# Altium footprint library num_one.PcbLib: 28 footprints (part 2 of 2)
Each footprint in its own frame and in the unit in brackets; x right, y up, seen from the top. Pads: shape width x height; smd on the part's side, far side on the other; paste and mask are expansions set on the pad; w line width, h text height; cw(c..) or ccw(c..) is an arc to the next point about the centre after c.
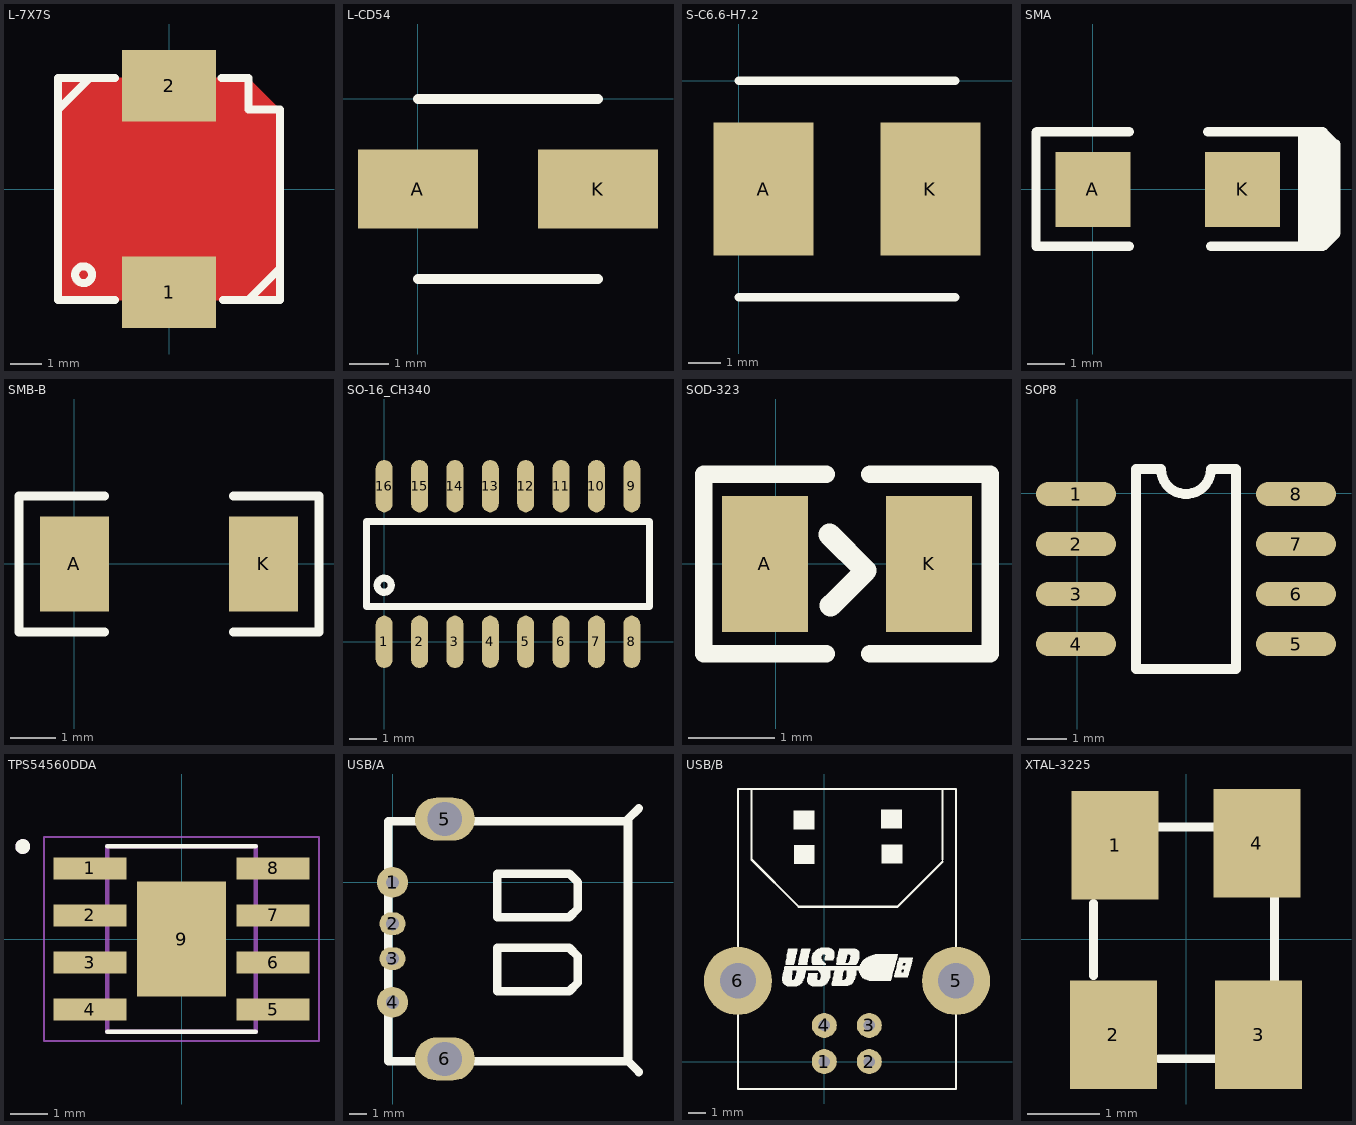
[diagram p1: the footprints below, top view; thin cyan lines are the x and y axes]

## L-7X7S [mil]
pads (2):
  rect 118.11x90 smd: 1(0,-130) 2(0,130)
Top Layer:
  pour cut-out: -140,140 -140,-140 140,-140 140,100 100,140
Top Overlay:
  circle w10: c-107.65,-108 r10.65
  lines w10: -140,100 -100,140 ; -68,-140 -140,-140 -140,140 -68,140 ; 66,140 100,140 100,100 140,100 140,-140 68,-140 ; 100,-140 140,-100

## L-CD54 [mm]
pads (2):
  rect 3.04x2 smd: A(0,-2.286) K(4.572,-2.286)
Top Overlay:
  lines w0.254: 0,-4.572 4.572,-4.572 ; 0,0 4.572,0

## S-C6.6-H7.2 [mil]
pads (2):
  rect 119.69x159.84 smd: A(30,-130) K(230,-130)
Top Overlay:
  lines w10: 0,-260 260,-260 ; 0,0 260,0

## SMA [mm]
pads (2):
  rect 2x2 smd: A(0,0) K(4,0)
Top Overlay:
  rectangle: 5.486,-1.27 6.379,1.241
  rectangle: 5.486,-1.473 6.223,1.499
  lines w0.254: -1.524,1.524 -1.524,-1.524 0.965,-1.524 ; -1.499,1.549 0.965,1.549 ; 3.073,1.549 6.147,1.549 6.147,1.346 6.498,0.995 6.431,0.995 6.262,0.825 6.262,1.033 ; 3.15,-1.524 5.486,-1.524 6.096,-1.524 ; 6.147,-1.473 6.096,-1.524 ; 6.172,1.511 6.477,1.206 ; 6.498,1.206 6.498,-1.176 6.15,-1.524 6.096,-1.524

## SMB-B [mil]
pads (2):
  rect 60x82 smd: A(0,0) K(164,0)
Top Overlay:
  lines w8: 26,-59 -48,-59 -48,59 26,59 ; 138,-59 212,-59 212,59 138,59

## SO-16_CH340 [mil]
pads (16):
  oval 24x74 smd: 1(0,0) 2(50,0) 3(100,0) 4(150,0) 5(200,0) 6(250,0) 7(300,0) 8(350,0) 9(350,220) 10(300,220) 11(250,220) 12(200,220) 13(150,220) 14(100,220) 15(50,220) 16(0,220)
Top Overlay:
  circle w10: c0,80 r10
  lines w10: -25,50 -25,170 375,170 375,50 -25,50
3D body "User Library-SOIC16-150.STEP": height 68.9, standoff 0, extent -18.83,-5 367,223.35

## SOD-323 [mil]
pads (2):
  rect 39.37x62 smd: A(-5,0) K(70,0)
Top Overlay:
  lines w8: 23,-41 -33,-41 -33,41 23,41 ; 43,-41 98,-41 98,41 43,41
  lines w10: 24.5,13.5 41,-3 25,-19

## SOP8 [mil]
pads (8):
  oval 80x24 smd: 1(-1,-1) 2(-1,-51) 3(-1,-101) 4(-1,-151) 5(219,-151) 6(219,-101) 7(219,-51) 8(219,-1)
Top Overlay:
  lines w10: 59,-176 159,-176 159,24 134,24 cw(c109,24) 84,24 59,24 59,-176
3D body "SOP8.STEP": height 62.99, standoff 0, extent -8.7,-173.62 229.17,24.02

## TPS54560DDA [mm]
pads (9):
  rect 1.97x0.6 smd: 1(-2.475,1.905) 2(-2.475,0.635) 3(-2.475,-0.635) 4(-2.475,-1.905) 5(2.475,-1.905) 6(2.475,-0.635) 7(2.475,0.635) 8(2.475,1.905)
  rect 2.4x3.1 smd: 9(0,0)
Top Overlay:
  circle w0.2: c-4.285,2.495 r0.1
  lines w0.127: -2,-2.5 2,-2.5 ; -2,2.5 2,2.5
Top Paste:
  region: -0.852,1.09 0.85,1.09 0.85,-1.092 -0.852,-1.092
Mechanical 4:
  circle w0.2: c-4.285,2.495 r0.1
  circle w0.2: c-4.285,2.495 r0.1
  lines w0.127: -2,-2.5 -2,2.5 ; -2,-2.5 2,-2.5 ; -2,-2.5 -2,2.5 ; -2,-2.5 2,-2.5 ; -2,2.5 2,2.5 ; -2,2.5 2,2.5 ; 2,-2.5 2,2.5 ; 2,-2.5 2,2.5
Mechanical 16:
  lines w0.05: -3.71,-2.75 -3.71,2.75 3.71,2.75 3.71,-2.75 -3.71,-2.75

## USB/A [mil]
pads (6):
  round 70.87 hole 30: 1(0,0) 4(0,-275)
  oval 60x52.13 hole 30: 2(0,-95) 3(0,-175)
  oval 137.79x98.42 hole 78.74: 5(120,145) 6(120,-405)
Top Overlay:
  lines w19.68: -10,-410 -10,140 540,140 ; -5,-410 540,-410 ; 240,-250 240,-150 405,-150 425,-170 425,-175 ; 240,-80 240,20 405,20 425,0 425,-5 ; 245,-250 405,-250 425,-230 425,-180 ; 245,-80 405,-80 425,-60 425,-10 ; 565,-435 540,-410 ; 565,170 540,145 540,140 ; 540,-410 540,140

## USB/B [mil]
pads (6):
  round 55 hole 25: 1(0,0) 2(99,0) 3(99,79.74) 4(0,79.74)
  round 150 hole 78.74: 5(290,177.74) 6(-190,177.74)
Top Overlay:
  drawing of 1016 lines, arcs and shapes, not listed

## XTAL-3225 [mil]
pads (4):
  rect 47.24x59.06 smd: 1(-38.5,51) 2(-39.5,-52) 3(39.5,-52) 4(38.5,52)
Top Overlay:
  lines w4.72: -50.31,-19.87 -50.31,19.5 ; -14.88,-65.14 16.62,-65.14 ; -14.88,60.84 16.62,60.84 ; 48.11,-23.8 48.11,23.44
3D body "XTAL-3225.STEP": height 31.5, standoff 0, extent -49.93,-64.99 48.5,60.99